# EAGLE library part AD597 (library JeeLabs)
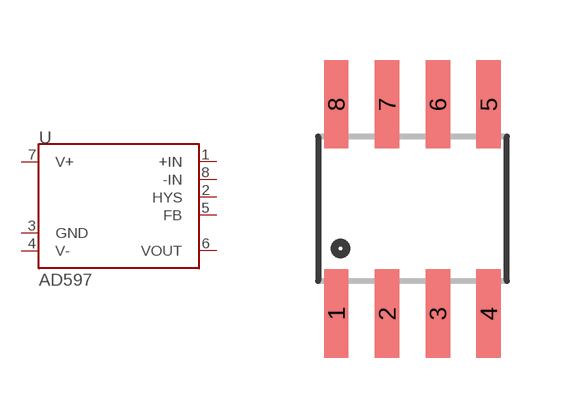
[diagram p4: symbol with the pads of SO08; footprint SO08]

Designator prefix -

## AD597SOIC  [SO08]
1  +IN  in
2  HYS
3  GND  pwr
4  V-  pwr
5  FB
6  VOUT  out
7  V+  pwr
8  -IN  in

## Footprint SO08 (pad centres in mm)
Small Outline Package Fits JEDEC packages (narrow SOIC-8)
smd 0.61 x 2.21: 1 -1.905,-2.616; 2 -0.635,-2.616; 3 0.635,-2.616; 4 1.905,-2.616; 5 1.905,2.616; 6 0.635,2.616; 7 -0.635,2.616; 8 -1.905,2.616